# Altium footprint library PCB Footprints.PcbLib: 316 footprints (part 11 of 21)
Each footprint in its own frame and in the unit in brackets; x right, y up, seen from the top. Pads: shape width x height; smd on the part's side, far side on the other; paste and mask are expansions set on the pad; w line width, h text height; cw(c..) or ccw(c..) is an arc to the next point about the centre after c.
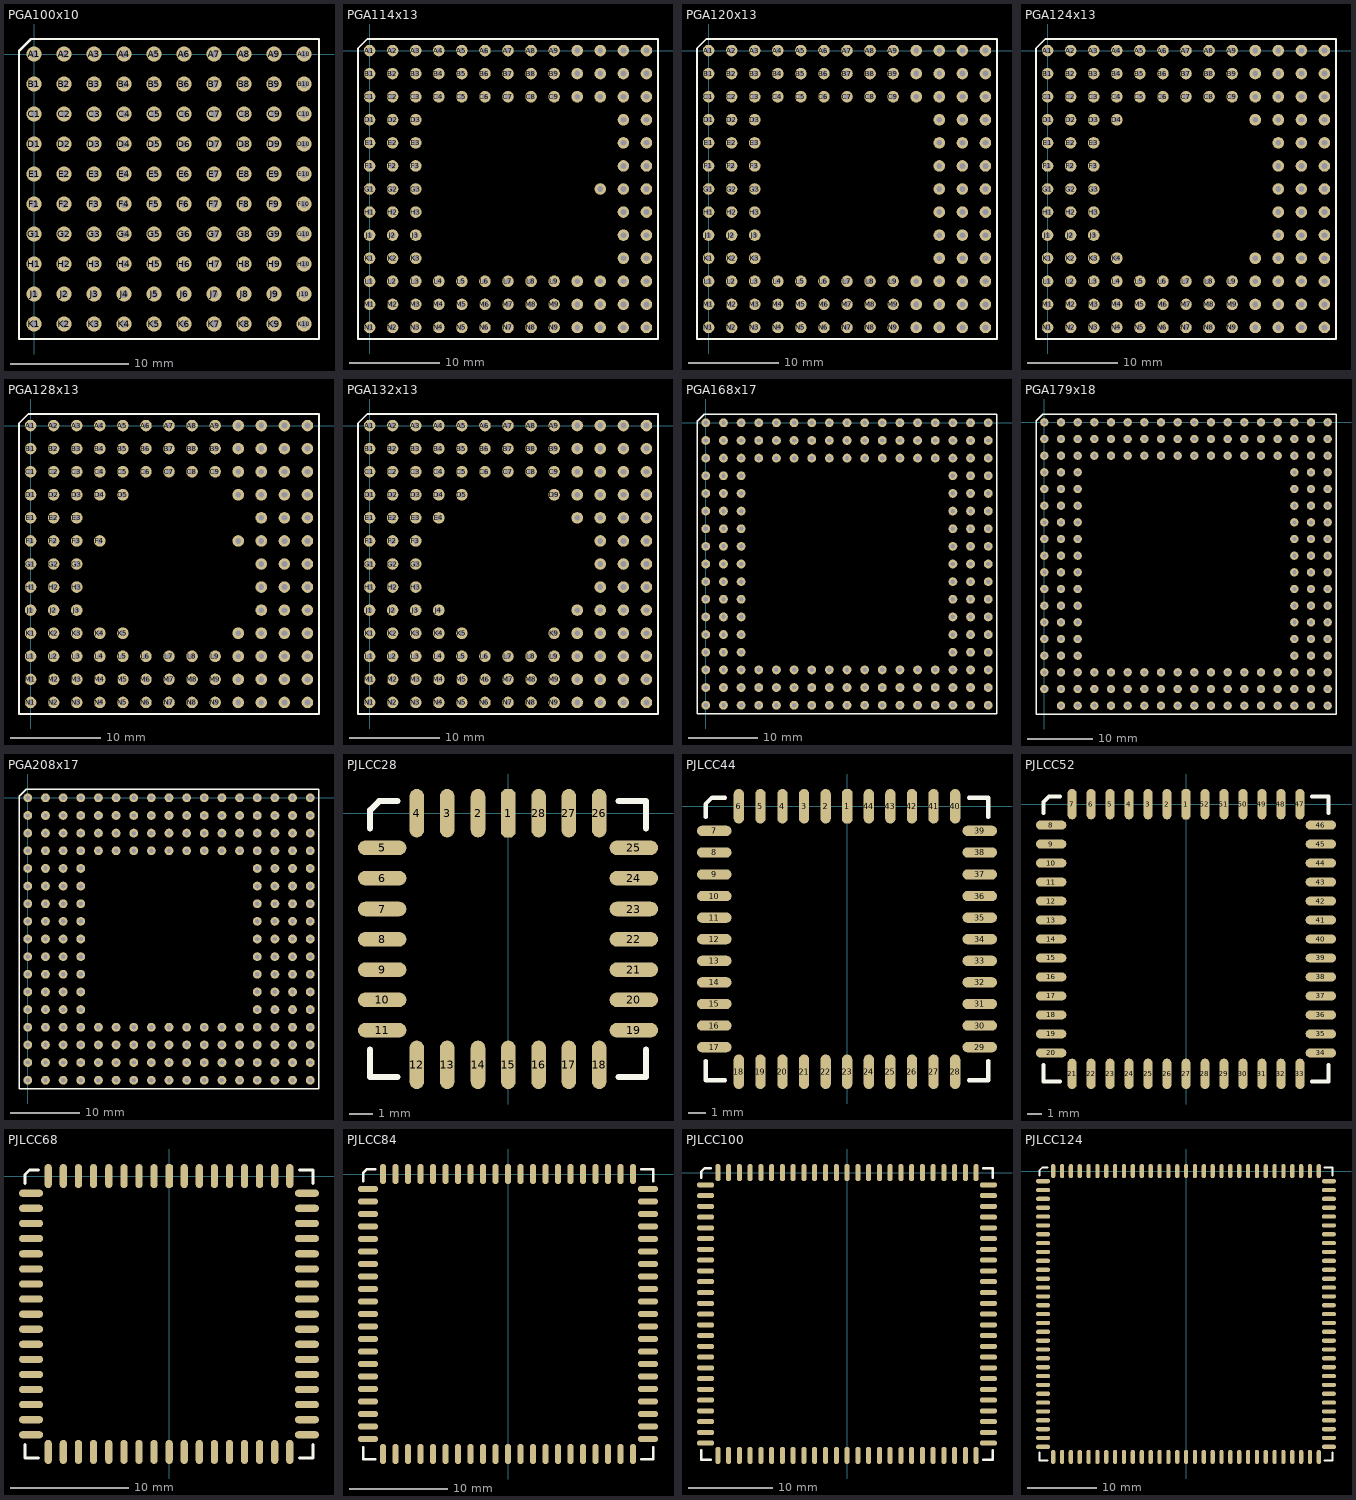
[diagram p10: the footprints below, top view; thin cyan lines are the x and y axes]

## PGA100x10 [mil]
pads (100):
  round 50 hole 25: A1(0,0) A2(100,0) A3(200,0) A4(300,0) A5(400,0) A6(500,0) A7(600,0) A8(700,0) A9(800,0) A10(900,0) B1(0,-100) B2(100,-100) B3(200,-100) B4(300,-100) B5(400,-100) B6(500,-100) B7(600,-100) B8(700,-100) B9(800,-100) B10(900,-100) C1(0,-200) C2(100,-200) C3(200,-200) C4(300,-200) C5(400,-200) C6(500,-200) C7(600,-200) C8(700,-200) C9(800,-200) C10(900,-200) D1(0,-300) D2(100,-300) D3(200,-300) D4(300,-300) D5(400,-300) D6(500,-300) D7(600,-300) D8(700,-300) D9(800,-300) D10(900,-300) E1(0,-400) E2(100,-400) E3(200,-400) E4(300,-400) E5(400,-400) E6(500,-400) E7(600,-400) E8(700,-400) E9(800,-400) E10(900,-400) F1(0,-500) F2(100,-500) F3(200,-500) F4(300,-500) F5(400,-500) F6(500,-500) F7(600,-500) F8(700,-500) F9(800,-500) F10(900,-500) G1(0,-600) G2(100,-600) G3(200,-600) G4(300,-600) G5(400,-600) G6(500,-600) G7(600,-600) G8(700,-600) G9(800,-600) G10(900,-600) H1(0,-700) H2(100,-700) H3(200,-700) H4(300,-700) H5(400,-700) H6(500,-700) H7(600,-700) H8(700,-700) H9(800,-700) H10(900,-700) J1(0,-800) J2(100,-800) J3(200,-800) J4(300,-800) J5(400,-800) J6(500,-800) J7(600,-800) J8(700,-800) J9(800,-800) J10(900,-800) K1(0,-900) K2(100,-900) K3(200,-900) K4(300,-900) K5(400,-900) K6(500,-900) K7(600,-900) K8(700,-900) K9(800,-900) K10(900,-900)
TopOverlay:
  lines w8: -50,-950 -50,10 -10,50 950,50 950,-950 -50,-950

## PGA114x13 [mil]
pads (114):
  round 50 hole 25: A1(0,0) A2(100,0) A3(200,0) A4(300,0) A5(400,0) A6(500,0) A7(600,0) A8(700,0) A9(800,0) A10(900,0) A11(1000,0) A12(1100,0) A13(1200,0) B1(0,-100) B2(100,-100) B3(200,-100) B4(300,-100) B5(400,-100) B6(500,-100) B7(600,-100) B8(700,-100) B9(800,-100) B10(900,-100) B11(1000,-100) B12(1100,-100) B13(1200,-100) C1(0,-200) C2(100,-200) C3(200,-200) C4(300,-200) C5(400,-200) C6(500,-200) C7(600,-200) C8(700,-200) C9(800,-200) C10(900,-200) C11(1000,-200) C12(1100,-200) C13(1200,-200) D1(0,-300) D2(100,-300) D3(200,-300) D12(1100,-300) D13(1200,-300) E1(0,-400) E2(100,-400) E3(200,-400) E12(1100,-400) E13(1200,-400) F1(0,-500) F2(100,-500) F3(200,-500) F12(1100,-500) F13(1200,-500) G1(0,-600) G2(100,-600) G3(200,-600) G11(1000,-600) G12(1100,-600) G13(1200,-600) H1(0,-700) H2(100,-700) H3(200,-700) H12(1100,-700) H13(1200,-700) J1(0,-800) J2(100,-800) J3(200,-800) J12(1100,-800) J13(1200,-800) K1(0,-900) K2(100,-900) K3(200,-900) K12(1100,-900) K13(1200,-900) L1(0,-1000) L2(100,-1000) L3(200,-1000) L4(300,-1000) L5(400,-1000) L6(500,-1000) L7(600,-1000) L8(700,-1000) L9(800,-1000) L10(900,-1000) L11(1000,-1000) L12(1100,-1000) L13(1200,-1000) M1(0,-1100) M2(100,-1100) M3(200,-1100) M4(300,-1100) M5(400,-1100) M6(500,-1100) M7(600,-1100) M8(700,-1100) M9(800,-1100) M10(900,-1100) M11(1000,-1100) M12(1100,-1100) M13(1200,-1100) N1(0,-1200) N2(100,-1200) N3(200,-1200) N4(300,-1200) N5(400,-1200) N6(500,-1200) N7(600,-1200) N8(700,-1200) N9(800,-1200) N10(900,-1200) N11(1000,-1200) N12(1100,-1200) N13(1200,-1200)
TopOverlay:
  lines w8: -50,-1250 -50,10 -10,50 1250,50 1250,-1250 -50,-1250

## PGA120x13 [mil]
pads (120):
  round 50 hole 25: A1(0,0) A2(100,0) A3(200,0) A4(300,0) A5(400,0) A6(500,0) A7(600,0) A8(700,0) A9(800,0) A10(900,0) A11(1000,0) A12(1100,0) A13(1200,0) B1(0,-100) B2(100,-100) B3(200,-100) B4(300,-100) B5(400,-100) B6(500,-100) B7(600,-100) B8(700,-100) B9(800,-100) B10(900,-100) B11(1000,-100) B12(1100,-100) B13(1200,-100) C1(0,-200) C2(100,-200) C3(200,-200) C4(300,-200) C5(400,-200) C6(500,-200) C7(600,-200) C8(700,-200) C9(800,-200) C10(900,-200) C11(1000,-200) C12(1100,-200) C13(1200,-200) D1(0,-300) D2(100,-300) D3(200,-300) D11(1000,-300) D12(1100,-300) D13(1200,-300) E1(0,-400) E2(100,-400) E3(200,-400) E11(1000,-400) E12(1100,-400) E13(1200,-400) F1(0,-500) F2(100,-500) F3(200,-500) F11(1000,-500) F12(1100,-500) F13(1200,-500) G1(0,-600) G2(100,-600) G3(200,-600) G11(1000,-600) G12(1100,-600) G13(1200,-600) H1(0,-700) H2(100,-700) H3(200,-700) H11(1000,-700) H12(1100,-700) H13(1200,-700) J1(0,-800) J2(100,-800) J3(200,-800) J11(1000,-800) J12(1100,-800) J13(1200,-800) K1(0,-900) K2(100,-900) K3(200,-900) K11(1000,-900) K12(1100,-900) K13(1200,-900) L1(0,-1000) L2(100,-1000) L3(200,-1000) L4(300,-1000) L5(400,-1000) L6(500,-1000) L7(600,-1000) L8(700,-1000) L9(800,-1000) L10(900,-1000) L11(1000,-1000) L12(1100,-1000) L13(1200,-1000) M1(0,-1100) M2(100,-1100) M3(200,-1100) M4(300,-1100) M5(400,-1100) M6(500,-1100) M7(600,-1100) M8(700,-1100) M9(800,-1100) M10(900,-1100) M11(1000,-1100) M12(1100,-1100) M13(1200,-1100) N1(0,-1200) N2(100,-1200) N3(200,-1200) N4(300,-1200) N5(400,-1200) N6(500,-1200) N7(600,-1200) N8(700,-1200) N9(800,-1200) N10(900,-1200) N11(1000,-1200) N12(1100,-1200) N13(1200,-1200)
TopOverlay:
  lines w8: -50,-1250 -50,10 -10,50 1250,50 1250,-1250 -50,-1250

## PGA124x13 [mil]
pads (124):
  round 50 hole 25: A1(0,0) A2(100,0) A3(200,0) A4(300,0) A5(400,0) A6(500,0) A7(600,0) A8(700,0) A9(800,0) A10(900,0) A11(1000,0) A12(1100,0) A13(1200,0) B1(0,-100) B2(100,-100) B3(200,-100) B4(300,-100) B5(400,-100) B6(500,-100) B7(600,-100) B8(700,-100) B9(800,-100) B10(900,-100) B11(1000,-100) B12(1100,-100) B13(1200,-100) C1(0,-200) C2(100,-200) C3(200,-200) C4(300,-200) C5(400,-200) C6(500,-200) C7(600,-200) C8(700,-200) C9(800,-200) C10(900,-200) C11(1000,-200) C12(1100,-200) C13(1200,-200) D1(0,-300) D2(100,-300) D3(200,-300) D4(300,-300) D10(900,-300) D11(1000,-300) D12(1100,-300) D13(1200,-300) E1(0,-400) E2(100,-400) E3(200,-400) E11(1000,-400) E12(1100,-400) E13(1200,-400) F1(0,-500) F2(100,-500) F3(200,-500) F11(1000,-500) F12(1100,-500) F13(1200,-500) G1(0,-600) G2(100,-600) G3(200,-600) G11(1000,-600) G12(1100,-600) G13(1200,-600) H1(0,-700) H2(100,-700) H3(200,-700) H11(1000,-700) H12(1100,-700) H13(1200,-700) J1(0,-800) J2(100,-800) J3(200,-800) J11(1000,-800) J12(1100,-800) J13(1200,-800) K1(0,-900) K2(100,-900) K3(200,-900) K4(300,-900) K10(900,-900) K11(1000,-900) K12(1100,-900) K13(1200,-900) L1(0,-1000) L2(100,-1000) L3(200,-1000) L4(300,-1000) L5(400,-1000) L6(500,-1000) L7(600,-1000) L8(700,-1000) L9(800,-1000) L10(900,-1000) L11(1000,-1000) L12(1100,-1000) L13(1200,-1000) M1(0,-1100) M2(100,-1100) M3(200,-1100) M4(300,-1100) M5(400,-1100) M6(500,-1100) M7(600,-1100) M8(700,-1100) M9(800,-1100) M10(900,-1100) M11(1000,-1100) M12(1100,-1100) M13(1200,-1100) N1(0,-1200) N2(100,-1200) N3(200,-1200) N4(300,-1200) N5(400,-1200) N6(500,-1200) N7(600,-1200) N8(700,-1200) N9(800,-1200) N10(900,-1200) N11(1000,-1200) N12(1100,-1200) N13(1200,-1200)
TopOverlay:
  lines w8: -50,-1250 -50,10 -10,50 1250,50 1250,-1250 -50,-1250

## PGA128x13 [mil]
pads (128):
  round 50 hole 25: A1(0,0) A2(100,0) A3(200,0) A4(300,0) A5(400,0) A6(500,0) A7(600,0) A8(700,0) A9(800,0) A10(900,0) A11(1000,0) A12(1100,0) A13(1200,0) B1(0,-100) B2(100,-100) B3(200,-100) B4(300,-100) B5(400,-100) B6(500,-100) B7(600,-100) B8(700,-100) B9(800,-100) B10(900,-100) B11(1000,-100) B12(1100,-100) B13(1200,-100) C1(0,-200) C2(100,-200) C3(200,-200) C4(300,-200) C5(400,-200) C6(500,-200) C7(600,-200) C8(700,-200) C9(800,-200) C10(900,-200) C11(1000,-200) C12(1100,-200) C13(1200,-200) D1(0,-300) D2(100,-300) D3(200,-300) D4(300,-300) D5(400,-300) D10(900,-300) D11(1000,-300) D12(1100,-300) D13(1200,-300) E1(0,-400) E2(100,-400) E3(200,-400) E11(1000,-400) E12(1100,-400) E13(1200,-400) F1(0,-500) F2(100,-500) F3(200,-500) F4(300,-500) F10(900,-500) F11(1000,-500) F12(1100,-500) F13(1200,-500) G1(0,-600) G2(100,-600) G3(200,-600) G11(1000,-600) G12(1100,-600) G13(1200,-600) H1(0,-700) H2(100,-700) H3(200,-700) H11(1000,-700) H12(1100,-700) H13(1200,-700) J1(0,-800) J2(100,-800) J3(200,-800) J11(1000,-800) J12(1100,-800) J13(1200,-800) K1(0,-900) K2(100,-900) K3(200,-900) K4(300,-900) K5(400,-900) K10(900,-900) K11(1000,-900) K12(1100,-900) K13(1200,-900) L1(0,-1000) L2(100,-1000) L3(200,-1000) L4(300,-1000) L5(400,-1000) L6(500,-1000) L7(600,-1000) L8(700,-1000) L9(800,-1000) L10(900,-1000) L11(1000,-1000) L12(1100,-1000) L13(1200,-1000) M1(0,-1100) M2(100,-1100) M3(200,-1100) M4(300,-1100) M5(400,-1100) M6(500,-1100) M7(600,-1100) M8(700,-1100) M9(800,-1100) M10(900,-1100) M11(1000,-1100) M12(1100,-1100) M13(1200,-1100) N1(0,-1200) N2(100,-1200) N3(200,-1200) N4(300,-1200) N5(400,-1200) N6(500,-1200) N7(600,-1200) N8(700,-1200) N9(800,-1200) N10(900,-1200) N11(1000,-1200) N12(1100,-1200) N13(1200,-1200)
TopOverlay:
  lines w8: -50,-1250 -50,10 -10,50 1250,50 1250,-1250 -50,-1250

## PGA132x13 [mil]
pads (132):
  round 50 hole 25: A1(0,0) A2(100,0) A3(200,0) A4(300,0) A5(400,0) A6(500,0) A7(600,0) A8(700,0) A9(800,0) A10(900,0) A11(1000,0) A12(1100,0) A13(1200,0) B1(0,-100) B2(100,-100) B3(200,-100) B4(300,-100) B5(400,-100) B6(500,-100) B7(600,-100) B8(700,-100) B9(800,-100) B10(900,-100) B11(1000,-100) B12(1100,-100) B13(1200,-100) C1(0,-200) C2(100,-200) C3(200,-200) C4(300,-200) C5(400,-200) C6(500,-200) C7(600,-200) C8(700,-200) C9(800,-200) C10(900,-200) C11(1000,-200) C12(1100,-200) C13(1200,-200) D1(0,-300) D2(100,-300) D3(200,-300) D4(300,-300) D5(400,-300) D9(800,-300) D10(900,-300) D11(1000,-300) D12(1100,-300) D13(1200,-300) E1(0,-400) E2(100,-400) E3(200,-400) E4(300,-400) E10(900,-400) E11(1000,-400) E12(1100,-400) E13(1200,-400) F1(0,-500) F2(100,-500) F3(200,-500) F11(1000,-500) F12(1100,-500) F13(1200,-500) G1(0,-600) G2(100,-600) G3(200,-600) G11(1000,-600) G12(1100,-600) G13(1200,-600) H1(0,-700) H2(100,-700) H3(200,-700) H11(1000,-700) H12(1100,-700) H13(1200,-700) J1(0,-800) J2(100,-800) J3(200,-800) J4(300,-800) J10(900,-800) J11(1000,-800) J12(1100,-800) J13(1200,-800) K1(0,-900) K2(100,-900) K3(200,-900) K4(300,-900) K5(400,-900) K9(800,-900) K10(900,-900) K11(1000,-900) K12(1100,-900) K13(1200,-900) L1(0,-1000) L2(100,-1000) L3(200,-1000) L4(300,-1000) L5(400,-1000) L6(500,-1000) L7(600,-1000) L8(700,-1000) L9(800,-1000) L10(900,-1000) L11(1000,-1000) L12(1100,-1000) L13(1200,-1000) M1(0,-1100) M2(100,-1100) M3(200,-1100) M4(300,-1100) M5(400,-1100) M6(500,-1100) M7(600,-1100) M8(700,-1100) M9(800,-1100) M10(900,-1100) M11(1000,-1100) M12(1100,-1100) M13(1200,-1100) N1(0,-1200) N2(100,-1200) N3(200,-1200) N4(300,-1200) N5(400,-1200) N6(500,-1200) N7(600,-1200) N8(700,-1200) N9(800,-1200) N10(900,-1200) N11(1000,-1200) N12(1100,-1200) N13(1200,-1200)
TopOverlay:
  lines w8: -50,-1250 -50,10 -10,50 1250,50 1250,-1250 -50,-1250

## PGA168x17 [mil]
pads (168):
  round 50 hole 25: A1(0,0) A2(100,0) A3(200,0) A4(300,0) A5(400,0) A6(500,0) A7(600,0) A8(700,0) A9(800,0) A10(900,0) A11(1000,0) A12(1100,0) A13(1200,0) A14(1300,0) A15(1400,0) A16(1500,0) A17(1600,0) B1(0,-100) B2(100,-100) B3(200,-100) B4(300,-100) B5(400,-100) B6(500,-100) B7(600,-100) B8(700,-100) B9(800,-100) B10(900,-100) B11(1000,-100) B12(1100,-100) B13(1200,-100) B14(1300,-100) B15(1400,-100) B16(1500,-100) B17(1600,-100) C1(0,-200) C2(100,-200) C3(200,-200) C4(300,-200) C5(400,-200) C6(500,-200) C7(600,-200) C8(700,-200) C9(800,-200) C10(900,-200) C11(1000,-200) C12(1100,-200) C13(1200,-200) C14(1300,-200) C15(1400,-200) C16(1500,-200) C17(1600,-200) D1(0,-300) D2(100,-300) D3(200,-300) D15(1400,-300) D16(1500,-300) D17(1600,-300) E1(0,-400) E2(100,-400) E3(200,-400) E15(1400,-400) E16(1500,-400) E17(1600,-400) F1(0,-500) F2(100,-500) F3(200,-500) F15(1400,-500) F16(1500,-500) F17(1600,-500) G1(0,-600) G2(100,-600) G3(200,-600) G15(1400,-600) G16(1500,-600) G17(1600,-600) H1(0,-700) H2(100,-700) H3(200,-700) H15(1400,-700) H16(1500,-700) H17(1600,-700) J1(0,-800) J2(100,-800) J3(200,-800) J15(1400,-800) J16(1500,-800) J17(1600,-800) K1(0,-900) K2(100,-900) K3(200,-900) K15(1400,-900) K16(1500,-900) K17(1600,-900) L1(0,-1000) L2(100,-1000) L3(200,-1000) L15(1400,-1000) L16(1500,-1000) L17(1600,-1000) M1(0,-1100) M2(100,-1100) M3(200,-1100) M15(1400,-1100) M16(1500,-1100) M17(1600,-1100) N1(0,-1200) N2(100,-1200) N3(200,-1200) N15(1400,-1200) N16(1500,-1200) N17(1600,-1200) P1(0,-1300) P2(100,-1300) P3(200,-1300) P15(1400,-1300) P16(1500,-1300) P17(1600,-1300) Q1(0,-1400) Q2(100,-1400) Q3(200,-1400) Q4(300,-1400) Q5(400,-1400) Q6(500,-1400) Q7(600,-1400) Q8(700,-1400) Q9(800,-1400) Q10(900,-1400) Q11(1000,-1400) Q12(1100,-1400) Q13(1200,-1400) Q14(1300,-1400) Q15(1400,-1400) Q16(1500,-1400) Q17(1600,-1400) R1(0,-1500) R2(100,-1500) R3(200,-1500) R4(300,-1500) R5(400,-1500) R6(500,-1500) R7(600,-1500) R8(700,-1500) R9(800,-1500) R10(900,-1500) R11(1000,-1500) R12(1100,-1500) R13(1200,-1500) R14(1300,-1500) R15(1400,-1500) R16(1500,-1500) R17(1600,-1500) S1(0,-1600) S2(100,-1600) S3(200,-1600) S4(300,-1600) S5(400,-1600) S6(500,-1600) S7(600,-1600) S8(700,-1600) S9(800,-1600) S10(900,-1600) S11(1000,-1600) S12(1100,-1600) S13(1200,-1600) S14(1300,-1600) S15(1400,-1600) S16(1500,-1600) S17(1600,-1600)
TopOverlay:
  lines w8: -50,-1650 -50,10 -10,50 1650,50 1650,-1650 -50,-1650

## PGA179x18 [mil]
pads (179):
  round 50 hole 25: A1(0,0) A2(100,0) A3(200,0) A4(300,0) A5(400,0) A6(500,0) A7(600,0) A8(700,0) A9(800,0) A10(900,0) A11(1000,0) A12(1100,0) A13(1200,0) A14(1300,0) A15(1400,0) A16(1500,0) A17(1600,0) A18(1700,0) B1(0,-100) B2(100,-100) B3(200,-100) B4(300,-100) B5(400,-100) B6(500,-100) B7(600,-100) B8(700,-100) B9(800,-100) B10(900,-100) B11(1000,-100) B12(1100,-100) B13(1200,-100) B14(1300,-100) B15(1400,-100) B16(1500,-100) B17(1600,-100) B18(1700,-100) C1(0,-200) C2(100,-200) C3(200,-200) C4(300,-200) C5(400,-200) C6(500,-200) C7(600,-200) C8(700,-200) C9(800,-200) C10(900,-200) C11(1000,-200) C12(1100,-200) C13(1200,-200) C14(1300,-200) C15(1400,-200) C16(1500,-200) C17(1600,-200) C18(1700,-200) D1(0,-300) D2(100,-300) D3(200,-300) D16(1500,-300) D17(1600,-300) D18(1700,-300) E1(0,-400) E2(100,-400) E3(200,-400) E16(1500,-400) E17(1600,-400) E18(1700,-400) F1(0,-500) F2(100,-500) F3(200,-500) F16(1500,-500) F17(1600,-500) F18(1700,-500) G1(0,-600) G2(100,-600) G3(200,-600) G16(1500,-600) G17(1600,-600) G18(1700,-600) H1(0,-700) H2(100,-700) H3(200,-700) H16(1500,-700) H17(1600,-700) H18(1700,-700) J1(0,-800) J2(100,-800) J3(200,-800) J16(1500,-800) J17(1600,-800) J18(1700,-800) K1(0,-900) K2(100,-900) K3(200,-900) K16(1500,-900) K17(1600,-900) K18(1700,-900) L1(0,-1000) L2(100,-1000) L3(200,-1000) L16(1500,-1000) L17(1600,-1000) L18(1700,-1000) M1(0,-1100) M2(100,-1100) M3(200,-1100) M16(1500,-1100) M17(1600,-1100) M18(1700,-1100) N1(0,-1200) N2(100,-1200) N3(200,-1200) N16(1500,-1200) N17(1600,-1200) N18(1700,-1200) P1(0,-1300) P2(100,-1300) P3(200,-1300) P16(1500,-1300) P17(1600,-1300) P18(1700,-1300) Q1(0,-1400) Q2(100,-1400) Q3(200,-1400) Q16(1500,-1400) Q17(1600,-1400) Q18(1700,-1400) R1(0,-1500) R2(100,-1500) R3(200,-1500) R4(300,-1500) R5(400,-1500) R6(500,-1500) R7(600,-1500) R8(700,-1500) R9(800,-1500) R10(900,-1500) R11(1000,-1500) R12(1100,-1500) R13(1200,-1500) R14(1300,-1500) R15(1400,-1500) R16(1500,-1500) R17(1600,-1500) R18(1700,-1500) S1(0,-1600) S2(100,-1600) S3(200,-1600) S4(300,-1600) S5(400,-1600) S6(500,-1600) S7(600,-1600) S8(700,-1600) S9(800,-1600) S10(900,-1600) S11(1000,-1600) S12(1100,-1600) S13(1200,-1600) S14(1300,-1600) S15(1400,-1600) S16(1500,-1600) S17(1600,-1600) S18(1700,-1600) T2(100,-1700) T3(200,-1700) T4(300,-1700) T5(400,-1700) T6(500,-1700) T7(600,-1700) T8(700,-1700) T9(800,-1700) T10(900,-1700) T11(1000,-1700) T12(1100,-1700) T13(1200,-1700) T14(1300,-1700) T15(1400,-1700) T16(1500,-1700) T17(1600,-1700) T18(1700,-1700)
TopOverlay:
  lines w8: -50,-1750 -50,10 -10,50 1750,50 1750,-1750 -50,-1750

## PGA208x17 [mil]
pads (208):
  round 50 hole 25: A1(0,0) A2(100,0) A3(200,0) A4(300,0) A5(400,0) A6(500,0) A7(600,0) A8(700,0) A9(800,0) A10(900,0) A11(1000,0) A12(1100,0) A13(1200,0) A14(1300,0) A15(1400,0) A16(1500,0) A17(1600,0) B1(0,-100) B2(100,-100) B3(200,-100) B4(300,-100) B5(400,-100) B6(500,-100) B7(600,-100) B8(700,-100) B9(800,-100) B10(900,-100) B11(1000,-100) B12(1100,-100) B13(1200,-100) B14(1300,-100) B15(1400,-100) B16(1500,-100) B17(1600,-100) C1(0,-200) C2(100,-200) C3(200,-200) C4(300,-200) C5(400,-200) C6(500,-200) C7(600,-200) C8(700,-200) C9(800,-200) C10(900,-200) C11(1000,-200) C12(1100,-200) C13(1200,-200) C14(1300,-200) C15(1400,-200) C16(1500,-200) C17(1600,-200) D1(0,-300) D2(100,-300) D3(200,-300) D4(300,-300) D5(400,-300) D6(500,-300) D7(600,-300) D8(700,-300) D9(800,-300) D10(900,-300) D11(1000,-300) D12(1100,-300) D13(1200,-300) D14(1300,-300) D15(1400,-300) D16(1500,-300) D17(1600,-300) E1(0,-400) E2(100,-400) E3(200,-400) E4(300,-400) E14(1300,-400) E15(1400,-400) E16(1500,-400) E17(1600,-400) F1(0,-500) F2(100,-500) F3(200,-500) F4(300,-500) F14(1300,-500) F15(1400,-500) F16(1500,-500) F17(1600,-500) G1(0,-600) G2(100,-600) G3(200,-600) G4(300,-600) G14(1300,-600) G15(1400,-600) G16(1500,-600) G17(1600,-600) H1(0,-700) H2(100,-700) H3(200,-700) H4(300,-700) H14(1300,-700) H15(1400,-700) H16(1500,-700) H17(1600,-700) J1(0,-800) J2(100,-800) J3(200,-800) J4(300,-800) J14(1300,-800) J15(1400,-800) J16(1500,-800) J17(1600,-800) K1(0,-900) K2(100,-900) K3(200,-900) K4(300,-900) K14(1300,-900) K15(1400,-900) K16(1500,-900) K17(1600,-900) L1(0,-1000) L2(100,-1000) L3(200,-1000) L4(300,-1000) L14(1300,-1000) L15(1400,-1000) L16(1500,-1000) L17(1600,-1000) M1(0,-1100) M2(100,-1100) M3(200,-1100) M4(300,-1100) M14(1300,-1100) M15(1400,-1100) M16(1500,-1100) M17(1600,-1100) N1(0,-1200) N2(100,-1200) N3(200,-1200) N4(300,-1200) N14(1300,-1200) N15(1400,-1200) N16(1500,-1200) N17(1600,-1200) P1(0,-1300) P2(100,-1300) P3(200,-1300) P4(300,-1300) P5(400,-1300) P6(500,-1300) P7(600,-1300) P8(700,-1300) P9(800,-1300) P10(900,-1300) P11(1000,-1300) P12(1100,-1300) P13(1200,-1300) P14(1300,-1300) P15(1400,-1300) P16(1500,-1300) P17(1600,-1300) Q1(0,-1400) Q2(100,-1400) Q3(200,-1400) Q4(300,-1400) Q5(400,-1400) Q6(500,-1400) Q7(600,-1400) Q8(700,-1400) Q9(800,-1400) Q10(900,-1400) Q11(1000,-1400) Q12(1100,-1400) Q13(1200,-1400) Q14(1300,-1400) Q15(1400,-1400) Q16(1500,-1400) Q17(1600,-1400) R1(0,-1500) R2(100,-1500) R3(200,-1500) R4(300,-1500) R5(400,-1500) R6(500,-1500) R7(600,-1500) R8(700,-1500) R9(800,-1500) R10(900,-1500) R11(1000,-1500) R12(1100,-1500) R13(1200,-1500) R14(1300,-1500) R15(1400,-1500) R16(1500,-1500) R17(1600,-1500) S1(0,-1600) S2(100,-1600) S3(200,-1600) S4(300,-1600) S5(400,-1600) S6(500,-1600) S7(600,-1600) S8(700,-1600) S9(800,-1600) S10(900,-1600) S11(1000,-1600) S12(1100,-1600) S13(1200,-1600) S14(1300,-1600) S15(1400,-1600) S16(1500,-1600) S17(1600,-1600)
TopOverlay:
  lines w8: -50,-1650 -50,10 -10,50 1650,50 1650,-1650 -50,-1650

## PJLCC28 [mil]
pads (28):
  oct 24x80 smd: 1(0,0)
  oval 24x80 smd: 2(-50,0) 3(-101,0) 4(-151,0) 12(-151,-415) 13(-101,-415) 14(-50,-415) 15(0,-415) 16(50,-415) 17(100,-415) 18(150,-415) 26(150,0) 27(100,0) 28(50,0)
  oval 80x24 smd: 5(-208,-57) 6(-208,-107) 7(-208,-158) 8(-208,-208) 9(-208,-258) 10(-208,-308) 11(-208,-358) 19(207,-358) 20(207,-308) 21(207,-258) 22(207,-208) 23(207,-158) 24(207,-107) 25(207,-57)
TopOverlay:
  lines w10: -228,-390 -228,-435 -183,-435 ; -228,-25 -228,5 -213,20 -183,20 ; 182,-435 227,-435 227,-390 ; 182,20 227,20 227,-25

## PJLCC44 [mil]
pads (44):
  oct 24x80 smd: 1(0,0)
  oval 24x80 smd: 2(-50,0) 3(-100,0) 4(-150,0) 5(-201,0) 6(-251,0) 18(-251,-615) 19(-201,-615) 20(-150,-615) 21(-100,-615) 22(-50,-615) 23(0,-615) 24(50,-615) 25(100,-615) 26(150,-615) 27(200,-615) 28(250,-615) 40(250,0) 41(200,0) 42(150,0) 43(100,0) 44(50,0)
  oval 80x24 smd: 7(-308,-57) 8(-308,-107) 9(-308,-158) 10(-308,-208) 11(-308,-258) 12(-308,-308) 13(-308,-358) 14(-308,-408) 15(-308,-458) 16(-308,-508) 17(-308,-558) 29(307,-558) 30(307,-508) 31(307,-458) 32(307,-408) 33(307,-358) 34(307,-308) 35(307,-258) 36(307,-208) 37(307,-158) 38(307,-107) 39(307,-57)
TopOverlay:
  lines w10: -328,-590 -328,-635 -283,-635 ; -328,-25 -328,5 -313,20 -283,20 ; 282,-635 327,-635 327,-590 ; 282,20 327,20 327,-25

## PJLCC52 [mil]
pads (52):
  oct 24x80 smd: 1(0,0)
  oval 24x80 smd: 2(-50,0) 3(-100,0) 4(-150,0) 5(-200,0) 6(-250,0) 7(-300,0) 21(-300,-710) 22(-250,-710) 23(-200,-710) 24(-150,-710) 25(-100,-710) 26(-50,-710) 27(0,-710) 28(50,-710) 29(100,-710) 30(150,-710) 31(200,-710) 32(250,-710) 33(300,-710) 47(300,0) 48(250,0) 49(200,0) 50(150,0) 51(100,0) 52(50,0)
  oval 80x24 smd: 8(-355,-55) 9(-355,-105) 10(-355,-155) 11(-355,-205) 12(-355,-255) 13(-355,-305) 14(-355,-355) 15(-355,-405) 16(-355,-455) 17(-355,-505) 18(-355,-555) 19(-355,-605) 20(-355,-655) 34(355,-655) 35(355,-605) 36(355,-555) 37(355,-505) 38(355,-455) 39(355,-405) 40(355,-355) 41(355,-305) 42(355,-255) 43(355,-205) 44(355,-155) 45(355,-105) 46(355,-55)
TopOverlay:
  lines w10: -375,-687 -375,-730 -332,-730 ; -375,-23 -375,6 -361,20 -332,20 ; 332,-730 375,-730 375,-687 ; 332,20 375,20 375,-23

## PJLCC68 [mil]
pads (68):
  oct 24x80 smd: 1(0,0)
  oval 24x80 smd: 2(-50,0) 3(-100,0) 4(-150,0) 5(-200,0) 6(-251,0) 7(-301,0) 8(-351,0) 9(-401,0) 27(-401,-915) 28(-351,-915) 29(-301,-915) 30(-251,-915) 31(-200,-915) 32(-150,-915) 33(-100,-915) 34(-50,-915) 35(0,-915) 36(50,-915) 37(100,-915) 38(150,-915) 39(200,-915) 40(250,-915) 41(300,-915) 42(350,-915) 43(400,-915) 61(400,0) 62(350,0) 63(300,0) 64(250,0) 65(200,0) 66(150,0) 67(100,0) 68(50,0)
  oval 80x24 smd: 10(-458,-57) 11(-458,-107) 12(-458,-157) 13(-458,-207) 14(-458,-258) 15(-458,-308) 16(-458,-358) 17(-458,-408) 18(-458,-458) 19(-458,-508) 20(-458,-558) 21(-458,-608) 22(-458,-658) 23(-458,-708) 24(-458,-758) 25(-458,-808) 26(-458,-858) 44(457,-858) 45(457,-808) 46(457,-758) 47(457,-708) 48(457,-658) 49(457,-608) 50(457,-558) 51(457,-508) 52(457,-458) 53(457,-408) 54(457,-358) 55(457,-308) 56(457,-258) 57(457,-207) 58(457,-157) 59(457,-107) 60(457,-57)
TopOverlay:
  lines w10: -478,-890 -478,-935 -433,-935 ; -478,-25 -478,5 -463,20 -433,20 ; 432,-935 477,-935 477,-890 ; 432,20 477,20 477,-25

## PJLCC84 [mil]
pads (84):
  oct 24x80 smd: 1(0,0)
  oval 24x80 smd: 2(-50,0) 3(-100,0) 4(-150,0) 5(-200,0) 6(-250,0) 7(-300,0) 8(-350,0) 9(-400,0) 10(-450,0) 11(-500,0) 33(-500,-1120) 34(-450,-1120) 35(-400,-1120) 36(-350,-1120) 37(-300,-1120) 38(-250,-1120) 39(-200,-1120) 40(-150,-1120) 41(-100,-1120) 42(-50,-1120) 43(0,-1120) 44(50,-1120) 45(100,-1120) 46(150,-1120) 47(200,-1120) 48(250,-1120) 49(300,-1120) 50(350,-1120) 51(400,-1120) 52(450,-1120) 53(500,-1120) 75(500,0) 76(450,0) 77(400,0) 78(350,0) 79(300,0) 80(250,0) 81(200,0) 82(150,0) 83(100,0) 84(50,0)
  oval 80x24 smd: 12(-560,-60) 13(-560,-110) 14(-560,-160) 15(-560,-210) 16(-560,-260) 17(-560,-310) 18(-560,-360) 19(-560,-410) 20(-560,-460) 21(-560,-510) 22(-560,-560) 23(-560,-610) 24(-560,-660) 25(-560,-710) 26(-560,-760) 27(-560,-810) 28(-560,-860) 29(-560,-910) 30(-560,-960) 31(-560,-1010) 32(-560,-1060) 54(560,-1060) 55(560,-1010) 56(560,-960) 57(560,-910) 58(560,-860) 59(560,-810) 60(560,-760) 61(560,-710) 62(560,-660) 63(560,-610) 64(560,-560) 65(560,-510) 66(560,-460) 67(560,-410) 68(560,-360) 69(560,-310) 70(560,-260) 71(560,-210) 72(560,-160) 73(560,-110) 74(560,-60)
TopOverlay:
  lines w10: -580,-1092 -580,-1140 -532,-1140 ; -580,-28 -580,4 -564,20 -532,20 ; 532,-1140 580,-1140 580,-1092 ; 532,20 580,20 580,-28

## PJLCC100 [mil]
pads (100):
  oct 24x80 smd: 1(0,0)
  oval 24x80 smd: 2(-50,0) 3(-100,0) 4(-151,0) 5(-201,0) 6(-251,0) 7(-301,0) 8(-351,0) 9(-401,0) 10(-451,0) 11(-501,0) 12(-551,0) 13(-601,0) 39(-601,-1315) 40(-551,-1315) 41(-501,-1315) 42(-451,-1315) 43(-401,-1315) 44(-351,-1315) 45(-301,-1315) 46(-251,-1315) 47(-201,-1315) 48(-151,-1315) 49(-100,-1315) 50(-50,-1315) 51(0,-1315) 52(50,-1315) 53(100,-1315) 54(150,-1315) 55(200,-1315) 56(250,-1315) 57(300,-1315) 58(350,-1315) 59(400,-1315) 60(450,-1315) 61(500,-1315) 62(550,-1315) 63(600,-1315) 89(600,0) 90(550,0) 91(500,0) 92(450,0) 93(400,0) 94(350,0) 95(300,0) 96(250,0) 97(200,0) 98(150,0) 99(100,0) 100(50,0)
  oval 80x24 smd: 14(-658,-57) 15(-658,-107) 16(-658,-157) 17(-658,-207) 18(-658,-257) 19(-658,-307) 20(-658,-357) 21(-658,-407) 22(-658,-457) 23(-658,-507) 24(-658,-558) 25(-658,-608) 26(-658,-658) 27(-658,-708) 28(-658,-758) 29(-658,-808) 30(-658,-858) 31(-658,-908) 32(-658,-958) 33(-658,-1008) 34(-658,-1058) 35(-658,-1108) 36(-658,-1158) 37(-658,-1208) 38(-658,-1258) 64(657,-1258) 65(657,-1208) 66(657,-1158) 67(657,-1108) 68(657,-1058) 69(657,-1008) 70(657,-958) 71(657,-908) 72(657,-858) 73(657,-808) 74(657,-758) 75(657,-708) 76(657,-658) 77(657,-608) 78(657,-558) 79(657,-507) 80(657,-457) 81(657,-407) 82(657,-357) 83(657,-307) 84(657,-257) 85(657,-207) 86(657,-157) 87(657,-107) 88(657,-57)
TopOverlay:
  lines w10: -678,-1290 -678,-1335 -633,-1335 ; -678,-25 -678,5 -663,20 -633,20 ; 632,-1335 677,-1335 677,-1290 ; 632,20 677,20 677,-25

## PJLCC124 [mil]
pads (124):
  oct 24x80 smd: 1(0,0)
  oval 24x80 smd: 2(-50,0) 3(-100,0) 4(-150,0) 5(-200,0) 6(-250,0) 7(-301,0) 8(-351,0) 9(-401,0) 10(-451,0) 11(-501,0) 12(-551,0) 13(-601,0) 14(-651,0) 15(-701,0) 16(-751,0) 48(-751,-1615) 49(-701,-1615) 50(-651,-1615) 51(-601,-1615) 52(-551,-1615) 53(-501,-1615) 54(-451,-1615) 55(-401,-1615) 56(-351,-1615) 57(-301,-1615) 58(-250,-1615) 59(-200,-1615) 60(-150,-1615) 61(-100,-1615) 62(-50,-1615) 63(0,-1615) 64(50,-1615) 65(100,-1615) 66(150,-1615) 67(200,-1615) 68(250,-1615) 69(300,-1615) 70(350,-1615) 71(400,-1615) 72(450,-1615) 73(500,-1615) 74(550,-1615) 75(600,-1615) 76(650,-1615) 77(700,-1615) 78(750,-1615) 110(750,0) 111(700,0) 112(650,0) 113(600,0) 114(550,0) 115(500,0) 116(450,0) 117(400,0) 118(350,0) 119(300,0) 120(250,0) 121(200,0) 122(150,0) 123(100,0) 124(50,0)
  oval 80x24 smd: 17(-808,-57) 18(-808,-107) 19(-808,-157) 20(-808,-207) 21(-808,-257) 22(-808,-307) 23(-808,-357) 24(-808,-407) 25(-808,-457) 26(-808,-507) 27(-808,-558) 28(-808,-608) 29(-808,-658) 30(-808,-708) 31(-808,-758) 32(-808,-808) 33(-808,-858) 34(-808,-908) 35(-808,-958) 36(-808,-1008) 37(-808,-1058) 38(-808,-1108) 39(-808,-1158) 40(-808,-1208) 41(-808,-1258) 42(-808,-1308) 43(-808,-1358) 44(-808,-1408) 45(-808,-1458) 46(-808,-1508) 47(-808,-1558) 79(807,-1558) 80(807,-1508) 81(807,-1458) 82(807,-1408) 83(807,-1358) 84(807,-1308) 85(807,-1258) 86(807,-1208) 87(807,-1158) 88(807,-1108) 89(807,-1058) 90(807,-1008) 91(807,-958) 92(807,-908) 93(807,-858) 94(807,-808) 95(807,-758) 96(807,-708) 97(807,-658) 98(807,-608) 99(807,-558) 100(807,-507) 101(807,-457) 102(807,-407) 103(807,-357) 104(807,-307) 105(807,-257) 106(807,-207) 107(807,-157) 108(807,-107) 109(807,-57)
TopOverlay:
  lines w10: -828,-1590 -828,-1635 -783,-1635 ; -828,-25 -828,5 -813,20 -783,20 ; 782,-1635 827,-1635 827,-1590 ; 782,20 827,20 827,-25